# Altium schematic symbol library 主控板-国赛.SCHLIB: 28 symbols
Pins are listed as number, name and electrical type; pins without a type are passive.

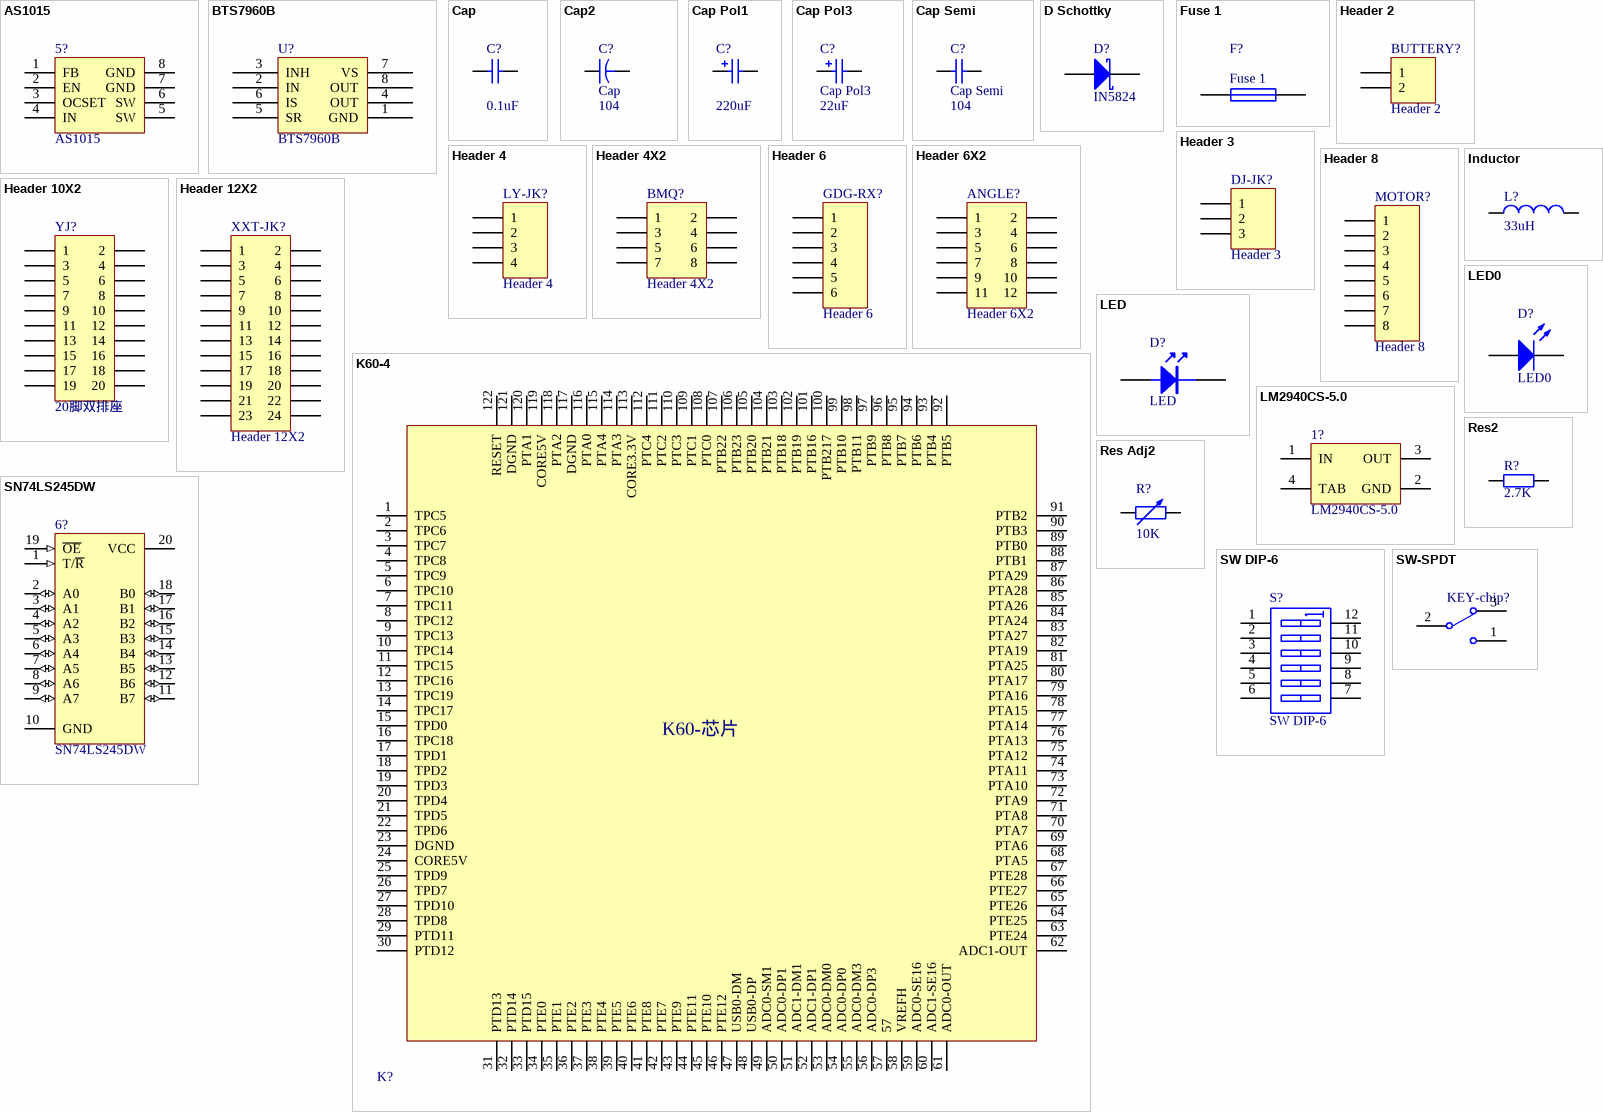
[diagram p0: symbols AS1015 to SW-SPDT]

## AS1015
designator 5?
footprint SOIC-8(TPS7350)
pins: 1 FB, 2 EN, 3 OCSET, 4 IN, 5 SW, 6 SW, 7 GND, 8 GND

## BTS7960B
designator U?
footprint PCBComponent_1
footprint PCBComponent_1
pins: 1 GND, 2 IN, 3 INH, 4 OUT, 5 SR, 6 IS, 7 VS, 8 OUT

## Cap
designator C?  value 0.1uF
Capacitor; Published: 8-Jun-2000; LatestRevisionDate: 17-Jul-2002; LatestRevisionNote: Re-released for DXP Platform.; PackageReference: RAD-0.3; Publisher: Altium Limited
footprint RAD-0.3 (Radial Cap, Thru-Hole; 2 Leads; 0.3 in Pin Spacing)
footprint CAPR2.54-5.1x3.2 (Capacitor, Ceramic, Thru-Hole, Dipped Radial; Body 5.1 x 3.2 mm (WxT) Pin Spacing 2.54 mm (typ))
footprint CAPR5.08-7.8x3.2 (Capacitor, Ceramic, Thru-Hole, Dipped Radial; Body 7.8 x 3.2 mm (WxT) Pin Spacing 5.08 mm (typ))
simulation model CAP (Capacitor)
signal-integrity model Cap
footprint 1206
footprint 0805
footprint PCBComponent_1
pins: 1, 2

## Cap2
designator C?, comment Cap  value 104
Capacitor; Published: 23-Sep-2002; PackageReference: CAPR5-4X5; Publisher: Altium Limited; PackageDescription: Capacitor; 2 Leads
footprint CAPR5-4X5 (Capacitor; 2 Leads)
simulation model CAP (Capacitor)
signal-integrity model Cap
footprint 1206
footprint 0805
footprint PCBComponent_1
pins: 1, 2

## Cap Pol1
designator C?  value 220uF
Polarized Capacitor (Radial); Published: 8-Jun-2000; LatestRevisionDate: 17-Jul-2002; LatestRevisionNote: Re-released for DXP Platform.; PackageReference: RB7.6-15; Publisher: Altium Limited
footprint C1206 (Chip Capacitor, Body 3.2x1.6mm, IPC High Density)
simulation model CAP (Capacitor)
signal-integrity model Cap Pol
footprint 1206
footprint PCBComponent_1
pins: 1, 2
1 alternate drawing of the same symbol

## Cap Pol3
designator C?  value 22uF
Polarized Capacitor (Surface Mount); Published: 8-Jun-2000; LatestRevisionDate: 29-May-2009; LatestRevisionNote: IPC-7351 Footprint Added.; PackageReference: C0805; Publisher: Altium Limited; PackageDescription: Chip Capacitor
footprint PCBComponent_1
footprint 1812 (Chip Capacitor, Body 4.5x3.2mm, IPC High Density)
footprint 1825 (Chip Capacitor, Body 4.5x6.4mm, IPC High Density)
footprint C2225 (Chip Capacitor, Body 5.7x6.4mm, IPC High Density)
footprint 2220 (Chip Capacitor, Body 5.7x5.0mm, IPC High Density)
simulation model CAP (Capacitor)
signal-integrity model Cap Pol
pins: 1, 2
1 alternate drawing of the same symbol

## Cap Semi
designator C?  value 104
Capacitor (Semiconductor SIM Model); Published: 8-Jun-2000; LatestRevisionDate: 29-May-2009; LatestRevisionNote: IPC-7351 Footprint Added.; PackageReference: C1206; Publisher: Altium Limited; PackageDescription: Chip Capacitor
footprint 6-0805_L (Chip Resistor, Body 2.0x1.2mm, IPC High Density)
footprint 0402 (Chip Capacitor, Body 1.0x0.5mm, IPC High Density)
footprint C2512 (Chip Capacitor, Body 2.54x1.27mm, IPC High Density)
footprint 1608[0603] (Chip Capacitor, Body 1.6x0.8mm, IPC High Density)
footprint C1210 (Chip Capacitor, Body 3.2x2.5mm, IPC High Density)
simulation model CAP (Semiconductor Capacitor)
signal-integrity model Cap Semi
footprint C0805 (Chip Capacitor, Body 2.0x1.3mm, IPC High Density)
footprint 0805
pins: 1, 2

## D Schottky
designator D?, comment IN5824
Schottky Diode; Published: 8-Jun-2000; LatestRevisionDate: 17-Jul-2002; LatestRevisionNote: Re-released for DXP Platform.; PackageReference: SMB; Publisher: Altium Limited; PackageDescription: DO-214-AA/SMB; 2 C-Bend Leads; Body 5.3 x 3.6 mm, inc. leads (LxW); Code_JEDEC: DO-214-AA
simulation model SKYDIODE (Diode)
signal-integrity model D Schottky
footprint 6032(极性); pin to pad 1>A 2>K
footprint PCBComponent_1
pins: 1 A, 2 K

## Fuse 1
designator F?
Fuse; Published: 8-Jun-2000; LatestRevisionDate: 17-Jul-2002; LatestRevisionNote: Re-released for DXP Platform.; PackageReference: PIN-W2/E2.8; Publisher: Altium Limited; PackageDescription: Thru-Hole; 2 Leads
footprint C1206 (Chip Capacitor, Body 3.2x1.6mm, IPC High Density)
simulation model FUSE (Spice Subcircuit)
footprint PCBComponent_1
pins: 1, 2

## Header 2
designator BUTTERY?
Header, 2-Pin; LatestRevisionDate: 17-Jul-2002; LatestRevisionNote: Re-released for DXP Platform.; Publisher: Altium Limited
footprint 电源
signal-integrity model Connector
pins: 1, 2

## Header 3
designator DJ-JK?
Header, 3-Pin; LatestRevisionDate: 17-Jul-2002; LatestRevisionNote: Re-released for DXP Platform.; Publisher: Altium Limited
footprint HDR1X3 (Connector; Header; 3 Position)
signal-integrity model Connector
pins: 1, 2, 3

## Header 4
designator LY-JK?
Header, 4-Pin; LatestRevisionDate: 17-Jul-2002; LatestRevisionNote: Re-released for DXP Platform.; Publisher: Altium Limited
footprint PCBComponent_1
signal-integrity model Connector
pins: 1, 2, 3, 4

## Header 4X2
designator BMQ?
Header, 4-Pin, Dual row; LatestRevisionDate: 17-Jul-2002; LatestRevisionNote: Re-released for DXP Platform.; Publisher: Altium Limited
footprint HDR2X4 (Connector; Header; 4x2 Position)
signal-integrity model Connector
pins: 1, 2, 3, 4, 5, 6, 7, 8

## Header 6
designator GDG-RX?
Header, 6-Pin; LatestRevisionDate: 17-Jul-2002; LatestRevisionNote: Re-released for DXP Platform.; Publisher: Altium Limited
footprint HDR1X6 (Connector; Header; 6 Position)
signal-integrity model Connector
pins: 1, 2, 3, 4, 5, 6

## Header 6X2
designator ANGLE?
Header, 6-Pin, Dual row; LatestRevisionDate: 17-Jul-2002; LatestRevisionNote: Re-released for DXP Platform.; Publisher: Altium Limited
footprint HDR2X6 (Connector; Header; 6x2 Position)
signal-integrity model Connector
pins: 1, 2, 3, 4, 5, 6, 7, 8, 9, 10, 11, 12

## Header 8
designator MOTOR?
Header, 8-Pin; LatestRevisionDate: 17-Jul-2002; LatestRevisionNote: Re-released for DXP Platform.; Publisher: Altium Limited
footprint PCBComponent_1
signal-integrity model Connector
pins: 1, 2, 3, 4, 5, 6, 7, 8

## Header 10X2
designator YJ?, comment 20脚双排座
Header, 10-Pin, Dual row; LatestRevisionDate: 17-Jul-2002; LatestRevisionNote: Re-released for DXP Platform.; Publisher: Altium Limited
footprint HDR2X10 (Connector; Header; 10x2 Position)
signal-integrity model Connector
pins: 1, 2, 3, 4, 5, 6, 7, 8, 9, 10, 11, 12, 13, 14, 15, 16, 17, 18, 19, 20

## Header 12X2
designator XXT-JK?
Header, 12-Pin, Dual row; LatestRevisionDate: 17-Jul-2002; LatestRevisionNote: Re-released for DXP Platform.; Publisher: Altium Limited
footprint PCBComponent_1
signal-integrity model Connector
pins: 1, 2, 3, 4, 5, 6, 7, 8, 9, 10, 11, 12, 13, 14, 15, 16, 17, 18, 19, 20, 21, 22, 23, 24

## Inductor
designator L?, comment value 33uH  (hidden comment: 33uH(工字电感))
Inductor; Code_IEC: 1005; Published: 8-Jun-2000; LatestRevisionDate: 29-May-2009; LatestRevisionNote: IPC-7351 Footprint Added.; PackageReference: 0402-A; Publisher: Altium Limited; PackageDescription: Chip Inductor; Code_JEITA: 0402
simulation model INDUCTOR (Inductor)
signal-integrity model Inductor
footprint PCBComponent_1
pins: 1, 2

## K60-4
designator K?  (value not drawn)
footprint PCBComponent_1
footprint PCBComponent_1
pins: 1 TPC5 (hiz), 2 TPC6 (hiz), 3 TPC7 (hiz), 4 TPC8 (hiz), 5 TPC9 (hiz), 6 TPC10 (hiz), 7 TPC11 (hiz), 8 TPC12 (hiz), 9 TPC13 (hiz), 10 TPC14 (hiz), 11 TPC15 (hiz), 12 TPC16 (hiz), 13 TPC19 (hiz), 14 TPC17 (hiz), 15 TPD0 (hiz), 16 TPC18 (hiz), 17 TPD1 (hiz), 18 TPD2 (hiz), 19 TPD3 (hiz), 20 TPD4 (hiz), 21 TPD5 (hiz), 22 TPD6 (hiz), 23 DGND (hiz), 24 CORE5V (hiz), 25 TPD9 (hiz), 26 TPD7 (hiz), 27 TPD10 (hiz), 28 TPD8 (hiz), 29 PTD11 (hiz), 30 PTD12 (hiz), 31 PTD13 (hiz), 32 PTD14 (hiz), 33 PTD15 (hiz), 34 PTE0 (hiz), 35 PTE1 (hiz), 36 PTE2 (hiz), 37 PTE3 (hiz), 38 PTE4 (hiz), 39 PTE5 (hiz), 40 PTE6 (hiz), 41 PTE8 (hiz), 42 PTE7 (hiz), 43 PTE9 (hiz), 44 PTE11 (hiz), 45 PTE10 (hiz), 46 PTE12 (hiz), 47 USB0-DM (hiz), 48 USB0-DP (hiz), 49 ADC0-SM1 (hiz), 50 ADC0-DP1 (hiz), 51 ADC1-DM1 (hiz), 52 ADC1-DP1 (hiz), 53 ADC0-DM0 (hiz), 54 ADC0-DP0 (hiz), 55 ADC0-DM3 (hiz), 56 ADC0-DP3 (hiz), 57 (hiz), 58 VREFH (hiz), 59 ADC0-SE16 (hiz), 60 ADC1-SE16 (hiz), 61 ADC0-OUT (hiz), 62 ADC1-OUT (hiz), 63 PTE24 (hiz), 64 PTE25 (hiz), 65 PTE26 (hiz), 66 PTE27 (hiz), 67 PTE28 (hiz), 68 PTA5 (hiz), 69 PTA6 (hiz), 70 PTA7 (hiz), 71 PTA8 (hiz), 72 PTA9 (hiz), 73 PTA10 (hiz), 74 PTA11 (hiz), 75 PTA12 (hiz), 76 PTA13 (hiz), 77 PTA14 (hiz), 78 PTA15 (hiz), 79 PTA16 (hiz), 80 PTA17 (hiz), 81 PTA25 (hiz), 82 PTA19 (hiz), 83 PTA27 (hiz), 84 PTA24 (hiz), 85 PTA26 (hiz), 86 PTA28 (hiz), 87 PTA29 (hiz), 88 PTB1 (hiz), 89 PTB0 (hiz), 90 PTB3 (hiz), 91 PTB2 (hiz), 92 PTB5 (hiz), 93 PTB4 (hiz), 94 PTB6 (hiz), 95 PTB7 (hiz), 96 PTB8 (hiz), 97 PTB9 (hiz), 98 PTB11 (hiz), 99 PTB10 (hiz), 100 PTB217 (hiz), 101 PTB16 (hiz), 102 PTB19 (hiz), 103 PTB18 (hiz), 104 PTB21 (hiz), 105 PTB20 (hiz), 106 PTB23 (hiz), 107 PTB22 (hiz), 108 PTC0 (hiz), 109 PTC1 (hiz), 110 PTC3 (hiz), 111 PTC2 (hiz), 112 PTC4 (hiz), 113 CORE3.3V (hiz), 114 PTA3 (hiz), 115 PTA4 (hiz), 116 PTA0 (hiz), 117 DGND (hiz), 118 PTA2 (hiz), 119 CORE5V (hiz), 120 PTA1 (hiz), 121 DGND (hiz), 122 RESET (hiz)
text: K60-芯片

## LED
designator D?
footprint PCBComponent_1
pins: 1, 2

## LED0
designator D?
Typical INFRARED GaAs LED; Published: 8-Jun-2000; LatestRevisionDate: 08-Jul-2005; LatestRevisionNote: Mech Layer 1 removed.; PackageReference: LED-0; Publisher: Altium Limited; PackageDescription: LED; 2 Leads
footprint LED-0 (LED; 2 Leads)
simulation model LED0 (Diode)
footprint PCBComponent_1
pins: 1 A, 2 K

## LM2940CS-5.0
designator 1?
1A Low Dropout Regulator; Manufacturer: National Semiconductor; CompType: LDO IC; PackageTopMarking: NSUZXYTTE#*LM2940CS*-5.0 P+; PowerWise: N; Published: 4-Dec-2008; DatasheetVersion: Jan-2007; PackageVersion: revF, Apr-2005; PackageReference: TS3B; Publisher: Altium Limited; PackageDescription: TO-263, Molded, .400 x .390 x .180in, 3 Lead, .1in Pitch, Surface Mount; PartNumber: LM2940CS-5.0; RoHS: O; PinCount: 3; DigiKeyPartNumber: LM2940CS-5.0-ND; Code_JEDEC: MO-169-AA; ComponentLink1Description: LM2940C Datasheet; ComponentLink1URL: http://www.national.com/ds/LM/LM2940C.pdf; ComponentLink2Description: LM2940C Web Page; ComponentLink2URL: http://www.national.com/pf/LM/LM2940C.html; ComponentLink3Description: TS3B Package Page; ComponentLink3URL: http://www.national.com/packaging/folders/ts3b.html
footprint PCBComponent_1
pins: 1 IN (power), 2 GND (power), 3 OUT (power), 4 TAB (power)

## Res2
designator R?  value 2.7K  (hidden comment: Res2)
Resistor; Published: 8-Jun-2000; LatestRevisionDate: 17-Jul-2002; LatestRevisionNote: Re-released for DXP Platform.; PackageReference: AXIAL-0.4; Publisher: Altium Limited; PackageDescription: Axial Device, Thru-Hole; 2 Leads; 0.4 in Pin Spacing
simulation model RESISTOR (Resistor)
signal-integrity model Res
footprint 0805
pins: 1, 2

## Res Adj2
designator R?  value 10K  (hidden comment: Res Adj2)
Variable Resistor; Set Position: 0.5; Published: 8-Jun-2000; LatestRevisionDate: 17-Jul-2002; LatestRevisionNote: Re-released for DXP Platform.; PackageReference: AXIAL-0.6; Publisher: Altium Limited; PackageDescription: Axial Device, Thru-Hole; 2 Leads; 0.6 in Pin Spacing
footprint 卧式可变电阻器
simulation model VRES (Variable Resistor)
signal-integrity model Res Adj
pins: 1, 2

## SN74LS245DW
designator 6?
Octal Bus Transceiver with 3-State Outputs; Published: 8-Jun-2000; LatestRevisionDate: 13-Apr-2006; LatestRevisionNote: IPC-7351 Footprint Added.; DatasheetVersion: Mar-1988; PackageVersion: Mar-2000; PackageReference: DW020; Publisher: Altium Limited; PackageDescription: 20-Pin Plastic Small Outline Integrated Circuit 1.27 mm Pitch; Code_JEDEC: MS-013; Code_IPC: SOIC127P1030-20; ComponentLink1Description: Manufacturer Link; ComponentLink1URL: http://www.ti.com/; ComponentLink2Description: Datasheet; ComponentLink2URL: http://www-s.ti.com/sc/ds/sn74ls245.pdf
footprint SN74HCxx-20P
3D model DW020 (20-Pin Plastic Small Outline Integrated Circuit 1.27 mm Pitch)
simulation model SN74LS245 (SIMCODE)
signal-integrity model SN74LS245DW
pins: 1 T/~{R} (in), 2 A0 (io), 3 A1 (io), 4 A2 (io), 5 A3 (io), 6 A4 (io), 7 A5 (io), 8 A6 (io), 9 A7 (io), 10 GND (power), 11 B7 (io), 12 B6 (io), 13 B5 (io), 14 B4 (io), 15 B3 (io), 16 B2 (io), 17 B1 (io), 18 B0 (io), 19 ~{OE} (in), 20 VCC (power)

## SW DIP-6
designator S?
DIP Switch, 6 Position, SPST; Published: 24-Mar-1999; LatestRevisionDate: 17-Jul-2002; LatestRevisionNote: Re-released for DXP Platform.; PackageReference: DIP-12/SW; Publisher: Altium Limited
footprint DIP-12/SW (DIP Switch; 12 Leads)
simulation model dpsw6 (Spice Subcircuit)
pins: 1 A1, 2 A2, 3 A3, 4 A4, 5 A5, 6 A6, 7 B6, 8 B5, 9 B4, 10 B3, 11 B2, 12 B1

## SW-SPDT
designator KEY-chip?  (value not drawn)
SPDT Subminiature Toggle Switch, Right Angle Mounting, Vertical Actuation; Published: 24-Mar-1999; LatestRevisionDate: 17-Dec-2003; LatestRevisionNote: Schematic revised, PCB Footprint replaced.; DatasheetVersion: 05-Dec-2000; PackageReference: TL36WW15050; Publisher: Altium Limited; PackageDescription: Switch; 4 Leads; ComponentLink1Description: Manufacturer Link; ComponentLink1URL: http://www.apem.com
footprint HDR1X3
pins: 1, 2, 3